# EAGLE library part LTC2863 (library controller-r3)
±60V Fault Protected 3V to 5.5V RS485/RS422 Transceivers
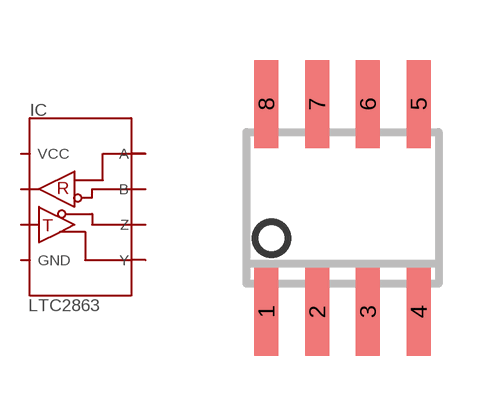
[diagram p1: symbol with the pads of SO08; footprint SO08]

Designator prefix IC

## LTC2863  [SO08]
1  VCC  pwr
2  RO
3  DI
4  GND  pwr
5  Y
6  Z
7  B
8  A

## Footprint SO08 (pad centres in mm)
SMALL OUTLINE INTEGRATED CIRCUIT body 3.9 mm/JEDEC MS-012AA
smd 0.6 x 2.2: 1 -1.905,-2.6; 2 -0.635,-2.6; 3 0.635,-2.6; 4 1.905,-2.6; 5 1.905,2.6; 6 0.635,2.6; 7 -0.635,2.6; 8 -1.905,2.6